# Altium schematic symbol library LM393MX.SchLib: 1 symbol
Pins are listed as number, name and electrical type; pins without a type are passive.

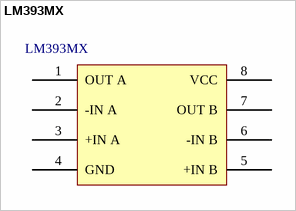
[diagram p0: symbol LM393MX]

## LM393MX
designator LM393MX  (value not drawn)
footprint LM393MX
pins: 1 OUT A, 2 -IN A, 3 +IN A, 4 GND, 5 +IN B, 6 -IN B, 7 OUT B, 8 VCC